# Altium footprint library CONN HEADER 2.50MM PITCH.PcbLib: 52 footprints (part 1 of 4)
Each footprint in its own frame and in the unit in brackets; x right, y up, seen from the top. Pads: shape width x height; smd on the part's side, far side on the other; paste and mask are expansions set on the pad; w line width, h text height; cw(c..) or ccw(c..) is an arc to the next point about the centre after c.
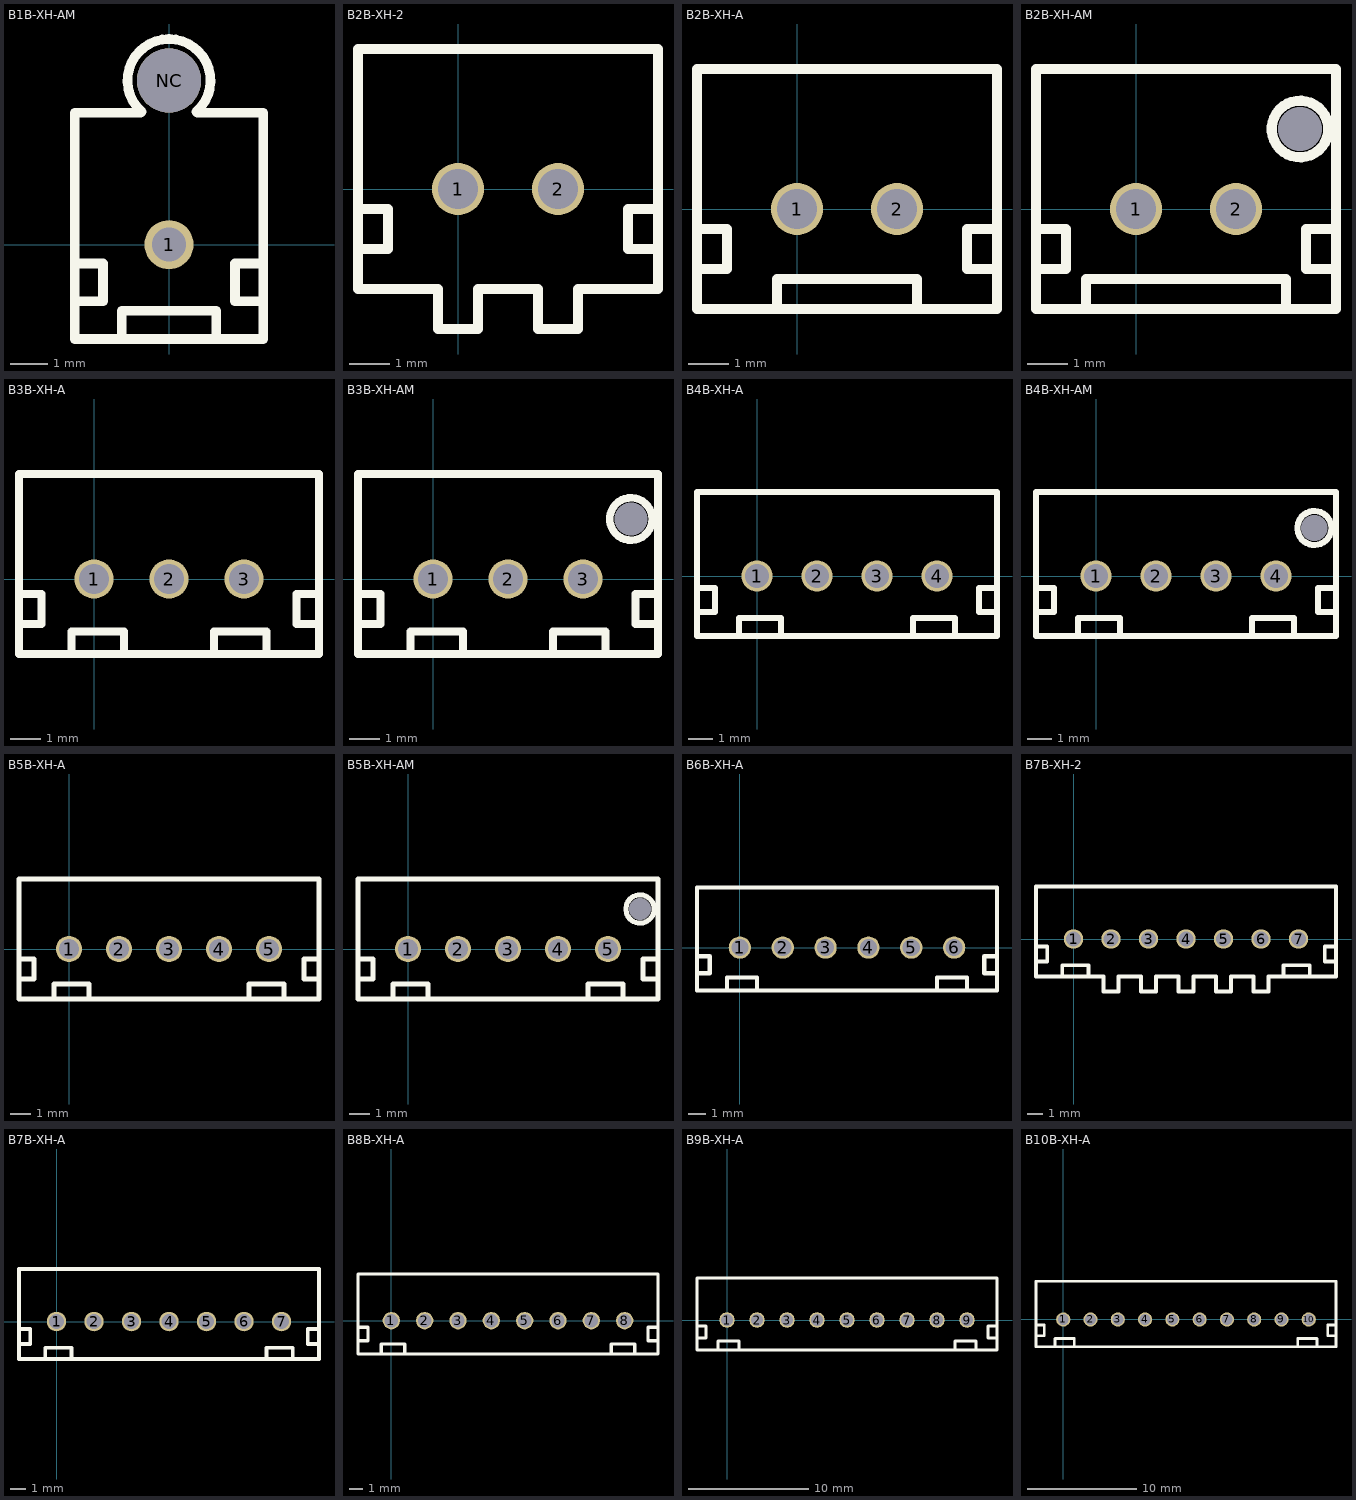
[diagram p0: the footprints below, top view; thin cyan lines are the x and y axes]

## B1B-XH-AM [mm]
height 7
pads (2):
  round 1.3 hole 0.9: 1(0,0)
  round 1.7 hole 1.7: NC(0,4.35)
Top Overlay:
  lines w0.254: -2.5,-1.5 -1.75,-1.5 -1.75,-0.5 -2.5,-0.5 ; -1.25,-2.5 -1.25,-1.75 0,-1.75 1.25,-1.75 1.25,-2.5 ; -0.75,3.5 -2.5,3.5 -2.5,-2.5 2.5,-2.5 2.5,3.5 0.75,3.5 ; -0.728,3.525 cw(c0,4.35) 0.728,3.525 ; 2.5,-1.5 1.75,-1.5 1.75,-0.5 2.5,-0.5
3D body "B1B-XH-AM.STEP": height 7, standoff -3.4, extent -2.45,-2.375 2.45,5.15

## B2B-XH-2 [mm] "B2B-XH-2"
height 7
pads (2):
  round 1.3 hole 1: 1(0,0) 2(2.5,0)
Top Overlay:
  lines w0.254: -2.5,-1.5 -1.75,-1.5 -1.75,-0.5 -2.5,-0.5 ; 5,-1.5 4.25,-1.5 4.25,-0.5 5,-0.5 ; -2.5,-2.5 -0.5,-2.5 -0.5,-3.5 0.5,-3.5 0.5,-2.5 2,-2.5 2,-3.5 3,-3.5 3,-2.5 5,-2.5 5,3.5 -2.5,3.5 -2.5,-2.5
3D body "B2B-XH-2.STEP": height 7, standoff -3.4, extent -2.45,-3.375 4.95,3.375

## B2B-XH-A [mm] "B2B-XH-A"
height 7
pads (2):
  round 1.3 hole 1: 1(0,0) 2(2.5,0)
Top Overlay:
  lines w0.254: -2.5,-1.5 -1.75,-1.5 -1.75,-0.5 -2.5,-0.5 ; -0.5,-2.5 -0.5,-1.75 1.25,-1.75 3,-1.75 3,-2.5 ; 5,-1.5 4.25,-1.5 4.25,-0.5 5,-0.5 ; -2.5,-2.5 -2.5,3.5 5,3.5 5,-2.5 -2.5,-2.5
3D body "B2B-XH-A.STEP": height 7, standoff -3.4, extent -2.45,-2.375 4.95,3.375

## B2B-XH-AM [mm] "B2B-XH-AM"
pads (3):
  round 1.3 hole 1: 1(0,0) 2(2.5,0)
  round 0 hole 1.1: NC(4.1,2)
Top Overlay:
  circle w0.254: c4.1,2 r0.707
  lines w0.254: -2.5,-1.5 -1.75,-1.5 -1.75,-0.5 -2.5,-0.5 ; -1.25,-2.5 -1.25,-1.75 0,-1.75 2.5,-1.75 3.75,-1.75 3.75,-2.5 ; 5,-1.5 4.25,-1.5 4.25,-0.5 5,-0.5 ; -2.5,-2.5 5,-2.5 5,3.5 -2.5,3.5 -2.5,-2.5
3D body "B2B-XH-AM.STEP": height 7, standoff -3.4, extent -2.45,-2.375 4.95,3.375

## B3B-XH-A [mm] "B3B-XH-A"
height 7
pads (3):
  round 1.3 hole 1: 1(0,0) 2(2.5,0) 3(5,0)
Top Overlay:
  lines w0.254: -2.5,-1.5 -1.75,-1.5 -1.75,-0.5 -2.5,-0.5 ; -0.75,-2.5 -0.75,-1.75 1,-1.75 1,-2.5 ; 4,-2.5 4,-1.75 5.75,-1.75 5.75,-2.5 ; 7.5,-1.5 6.75,-1.5 6.75,-0.5 7.5,-0.5 ; -2.5,-2.5 -2.5,3.5 7.5,3.5 7.5,-2.5 -2.5,-2.5
3D body "B3B-XH-A.STEP": height 7, standoff -3.4, extent -2.45,-2.375 7.45,3.375

## B3B-XH-AM [mm] "B3B-XH-AM"
height 7
pads (4):
  round 1.3 hole 1: 1(0,0) 2(2.5,0) 3(5,0)
  round 0 hole 1.1: NC(6.6,2)
Top Overlay:
  circle w0.254: c6.6,2 r0.707
  lines w0.254: -2.5,-1.5 -1.75,-1.5 -1.75,-0.5 -2.5,-0.5 ; -0.75,-2.5 -0.75,-1.75 1,-1.75 1,-2.5 ; 4,-2.5 4,-1.75 5.75,-1.75 5.75,-2.5 ; 7.5,-1.5 6.75,-1.5 6.75,-0.5 7.5,-0.5 ; -2.5,-2.5 -2.5,3.5 7.5,3.5 7.5,-2.5 -2.5,-2.5
3D body "B3B-XH-AM.STEP": height 7, standoff -3.4, extent -2.45,-2.375 7.45,3.375

## B4B-XH-A [mm] "B4B-XH-A"
height 7
pads (4):
  round 1.3 hole 1: 1(0,0) 2(2.5,0) 3(5,0) 4(7.5,0)
Top Overlay:
  lines w0.254: -2.5,-1.5 -1.75,-1.5 -1.75,-0.5 -2.5,-0.5 ; -0.75,-2.5 -0.75,-1.75 1,-1.75 1,-2.5 ; 6.5,-2.5 6.5,-1.75 8.25,-1.75 8.25,-2.5 ; 10,-1.5 9.25,-1.5 9.25,-0.5 10,-0.5 ; -2.5,-2.5 -2.5,3.5 10,3.5 10,-2.5 -2.5,-2.5
3D body "B4B-XH-A.STEP": height 7, standoff -3.4, extent -2.45,-2.375 9.95,3.375

## B4B-XH-AM [mm] "B4B-XH-AM"
height 7
pads (5):
  round 1.3 hole 1: 1(0,0) 2(2.5,0) 3(5,0) 4(7.5,0)
  round 0 hole 1.1: NC(9.1,2)
Top Overlay:
  circle w0.254: c9.1,2 r0.707
  lines w0.254: -2.5,-1.5 -1.75,-1.5 -1.75,-0.5 -2.5,-0.5 ; -0.75,-2.5 -0.75,-1.75 1,-1.75 1,-2.5 ; 6.5,-2.5 6.5,-1.75 8.25,-1.75 8.25,-2.5 ; 10,-1.5 9.25,-1.5 9.25,-0.5 10,-0.5 ; -2.5,-2.5 10,-2.5 10,3.5 -2.5,3.5 -2.5,-2.5
3D body "B4B-XH-AM.STEP": height 7, standoff -3.4, extent -2.45,-2.375 9.95,3.375

## B5B-XH-A [mm] "B5B-XH-A"
height 7
pads (5):
  round 1.3 hole 1: 1(0,0) 2(2.5,0) 3(5,0) 4(7.5,0) 5(10,0)
Top Overlay:
  lines w0.254: -2.5,-1.5 -1.75,-1.5 -1.75,-0.5 -2.5,-0.5 ; -0.75,-2.5 -0.75,-1.75 1,-1.75 1,-2.5 ; 9,-2.5 9,-1.75 10.75,-1.75 10.75,-2.5 ; 12.5,-1.5 11.75,-1.5 11.75,-0.5 12.5,-0.5 ; -2.5,-2.5 -2.5,3.5 12.5,3.5 12.5,-2.5 -2.5,-2.5
3D body "B5B-XH-A.STEP": height 7, standoff -3.4, extent -2.45,-2.375 12.45,3.375

## B5B-XH-AM [mm] "B5B-XH-AM"
height 7
pads (6):
  round 1.3 hole 1: 1(0,0) 2(2.5,0) 3(5,0) 4(7.5,0) 5(10,0)
  round 0 hole 1.1: NC(11.6,2)
Top Overlay:
  circle w0.254: c11.6,2 r0.707
  lines w0.254: -2.5,-1.5 -1.75,-1.5 -1.75,-0.5 -2.5,-0.5 ; -0.75,-2.5 -0.75,-1.75 1,-1.75 1,-2.5 ; 9,-2.5 9,-1.75 10.75,-1.75 10.75,-2.5 ; 12.5,-1.5 11.75,-1.5 11.75,-0.5 12.5,-0.5 ; -2.5,-2.5 -2.5,3.5 12.5,3.5 12.5,-2.5 -2.5,-2.5
3D body "B5B-XH-AM.STEP": height 7, standoff -3.4, extent -2.45,-2.375 12.45,3.375

## B6B-XH-A [mm] "B6B-XH-A"
height 7
pads (6):
  round 1.3 hole 1: 1(0,0) 2(2.5,0) 3(5,0) 4(7.5,0) 5(10,0) 6(12.5,0)
Top Overlay:
  lines w0.254: -2.5,-1.5 -1.75,-1.5 -1.75,-0.5 -2.5,-0.5 ; -0.75,-2.5 -0.75,-1.75 1,-1.75 1,-2.5 ; 11.5,-2.5 11.5,-1.75 13.25,-1.75 13.25,-2.5 ; 15,-1.5 14.25,-1.5 14.25,-0.5 15,-0.5 ; -2.5,-2.5 -2.5,3.5 15,3.5 15,-2.5 -2.5,-2.5
3D body "B6B-XH-A.STEP": height 7, standoff -3.4, extent -2.45,-2.375 14.95,3.375

## B7B-XH-2 [mm] "B7B-XH-2"
height 7
pads (7):
  round 1.3 hole 1: 1(0,0) 2(2.5,0) 3(5,0) 4(7.5,0) 5(10,0) 6(12.5,0) 7(15,0)
Top Overlay:
  lines w0.254: -2.5,-1.5 -1.75,-1.5 -1.75,-0.5 -2.5,-0.5 ; -0.75,-2.5 -0.75,-1.75 1,-1.75 1,-2.5 ; 14,-2.5 14,-1.75 15.75,-1.75 15.75,-2.5 ; 17.5,-1.5 16.75,-1.5 16.75,-0.5 17.5,-0.5 ; -2.5,-2.5 0.5,-2.5 2,-2.5 2,-3.5 3,-3.5 3,-2.5 4.5,-2.5 4.5,-3.5 5.5,-3.5 5.5,-2.5 7,-2.5 7,-3.5 8,-3.5 8,-2.5 9.5,-2.5 9.5,-3.5 10.5,-3.5 10.5,-2.5 12,-2.5 12,-3.5 13,-3.5 13,-2.5 14.5,-2.5 17.5,-2.5 17.5,3.5 -2.5,3.5 -2.5,-2.5
3D body "B7B-XH-2.STEP": height 7, standoff -3.4, extent -2.45,-3.375 17.45,3.375

## B7B-XH-A [mm] "B7B-XH-A"
height 7
pads (7):
  round 1.3 hole 1: 1(0,0) 2(2.5,0) 3(5,0) 4(7.5,0) 5(10,0) 6(12.5,0) 7(15,0)
Top Overlay:
  lines w0.254: -2.5,-1.5 -1.75,-1.5 -1.75,-0.5 -2.5,-0.5 ; -0.75,-2.5 -0.75,-1.75 1,-1.75 1,-2.5 ; 14,-2.5 14,-1.75 15.75,-1.75 15.75,-2.5 ; 17.5,-1.5 16.75,-1.5 16.75,-0.5 17.5,-0.5 ; -2.5,-2.5 -2.5,3.5 17.5,3.5 17.5,-2.5 -2.5,-2.5
3D body "B7B-XH-A.STEP": height 7, standoff -3.4, extent -2.45,-2.375 17.45,3.375

## B8B-XH-A [mm] "B8B-XH-A"
height 7
pads (8):
  round 1.3 hole 1: 1(0,0) 2(2.5,0) 3(5,0) 4(7.5,0) 5(10,0) 6(12.5,0) 7(15,0) 8(17.5,0)
Top Overlay:
  lines w0.254: -2.5,-1.5 -1.75,-1.5 -1.75,-0.5 -2.5,-0.5 ; -0.75,-2.5 -0.75,-1.75 1,-1.75 1,-2.5 ; 16.5,-2.5 16.5,-1.75 18.25,-1.75 18.25,-2.5 ; 20,-1.5 19.25,-1.5 19.25,-0.5 20,-0.5 ; -2.5,-2.5 20,-2.5 20,3.5 -2.5,3.5 -2.5,-2.5
3D body "B8B-XH-A.STEP": height 7, standoff -3.4, extent -2.45,-2.375 19.95,3.375

## B9B-XH-A [mm] "B9B-XH-A"
height 7
pads (9):
  round 1.3 hole 1: 1(0,0) 2(2.5,0) 3(5,0) 4(7.5,0) 5(10,0) 6(12.5,0) 7(15,0) 8(17.5,0) 9(20,0)
Top Overlay:
  lines w0.254: -2.5,-1.5 -1.75,-1.5 -1.75,-0.5 -2.5,-0.5 ; -0.75,-2.5 -0.75,-1.75 1,-1.75 1,-2.5 ; 19,-2.5 19,-1.75 20.75,-1.75 20.75,-2.5 ; 22.5,-1.5 21.75,-1.5 21.75,-0.5 22.5,-0.5 ; -2.5,-2.5 -2.5,3.5 22.5,3.5 22.5,-2.5 -2.5,-2.5
3D body "B9B-XH-A.STEP": height 7.03, standoff -3.37, extent -2.45,-2.375 22.45,3.375

## B10B-XH-A [mm] "B10B-XH-A"
height 7
pads (10):
  round 1.3 hole 1: 1(0,0) 2(2.5,0) 3(5,0) 4(7.5,0) 5(10,0) 6(12.5,0) 7(15,0) 8(17.5,0) 9(20,0) 10(22.5,0)
Top Overlay:
  lines w0.254: -2.5,-1.5 -1.75,-1.5 -1.75,-0.5 -2.5,-0.5 ; -0.75,-2.5 -0.75,-1.75 1,-1.75 1,-2.5 ; 21.5,-2.5 21.5,-1.75 23.25,-1.75 23.25,-2.5 ; 25,-1.5 24.25,-1.5 24.25,-0.5 25,-0.5 ; -2.5,-2.5 25,-2.5 25,3.5 -2.5,3.5 -2.5,-2.5
3D body "B10B-XH-A.STEP": height 7, standoff -3.4, extent -2.45,-2.375 24.95,3.375